# EAGLE library part 1G97 (library U-7400)
TY [DIODES,74LVC1G97W6-7] LOGIC MULT-FUNC SOT26
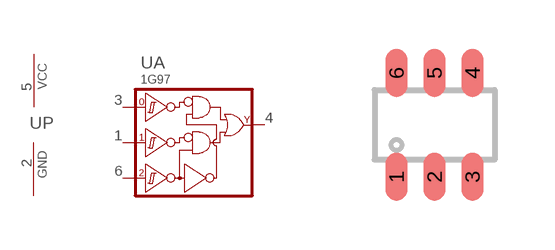
[diagram p323: symbol with the pads of SOT23-6,SOT26; footprint SOT23-6,SOT26]

Designator prefix U; gates A=1G97 P=PWRN

## 1G97SOT26  [SOT23-6,SOT26]
1  A:IN1  in
2  P:GND  pwr
3  A:IN0  in
4  A:Y  out
5  P:VCC  sup
6  A:IN2  in

## Footprint SOT23-6,SOT26 (pad centres in mm)
Small Outline SOT23-6, SOT26, SC-74A
smd 0.55 x 1.2: 1 -0.95,-1.3; 2 0,-1.3; 3 0.95,-1.3; 4 0.95,1.3; 5 0,1.3; 6 -0.95,1.3